# EAGLE library part WIZ120SR (library WIZnet)
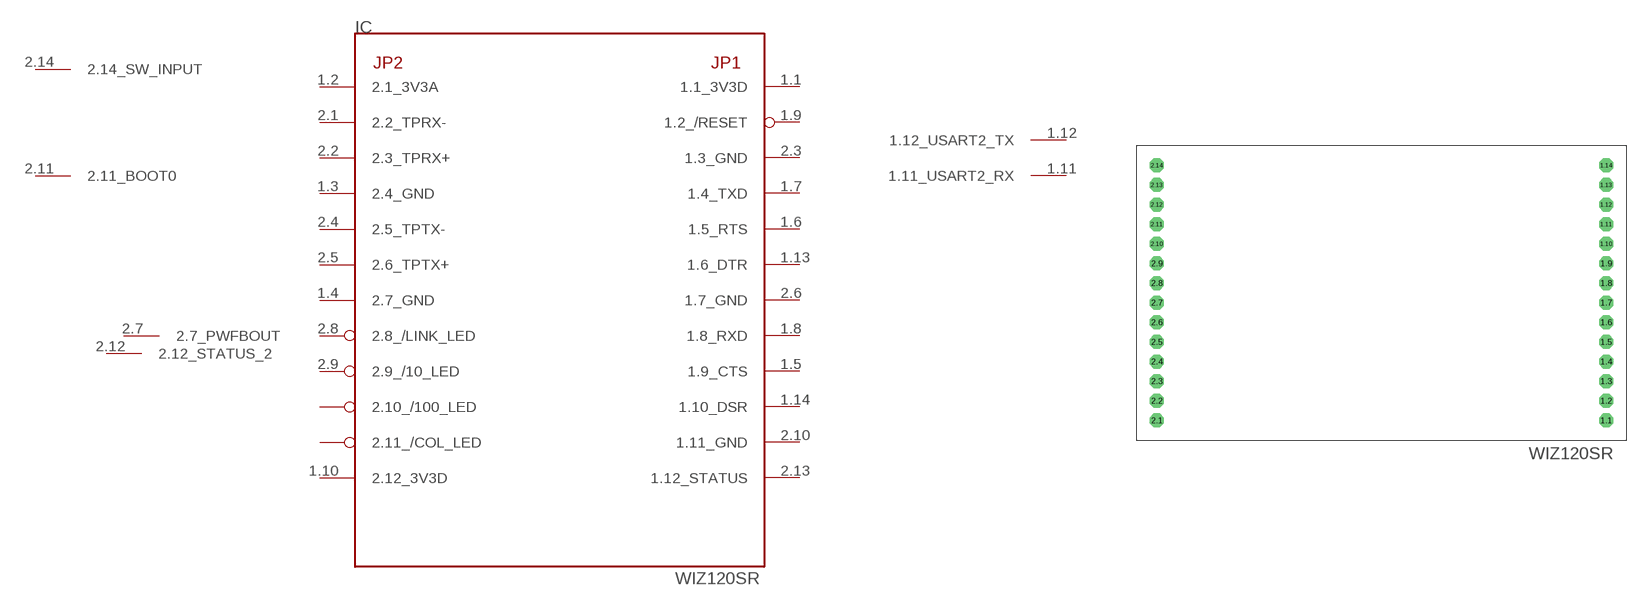
[diagram p10: symbol with the pads of WIZ120SR; footprint WIZ120SR]

Designator prefix IC

## WIZ120SRMODULE  [WIZ120SR]
1.1  1.1_3V3D  pwr
1.2  2.1_3V3A  pwr
1.3  2.4_GND  pwr
1.4  2.7_GND  pwr
1.5  1.9_CTS
1.6  1.5_RTS
1.7  1.4_TXD
1.8  1.8_RXD
1.9  1.2_/RESET
1.10  2.12_3V3D  pwr
1.11  1.11_USART2_RX
1.12  1.12_USART2_TX
1.13  1.6_DTR
1.14  1.10_DSR
2.1  2.2_TPRX-
2.2  2.3_TPRX+
2.3  1.3_GND  pwr
2.4  2.5_TPTX-
2.5  2.6_TPTX+
2.6  1.7_GND  pwr
2.7  2.7_PWFBOUT
2.8  2.8_/LINK_LED
2.9  2.9_/10_LED
2.10  1.11_GND  pwr
2.11  2.11_BOOT0
2.12  2.12_STATUS_2
2.13  1.12_STATUS
2.14  2.14_SW_INPUT

## Footprint WIZ120SR (pad centres in mm)
drill 0.8 pad 1.422 octagon: 1.1 47.9,2; 1.2 47.9,4; 1.3 47.9,6; 1.4 47.9,8; 1.5 47.9,10; 1.6 47.9,12; 1.7 47.9,14; 1.8 47.9,16; 1.9 47.9,18; 1.10 47.9,20; 1.11 47.9,22; 1.12 47.9,24; 1.13 47.9,26; 1.14 47.9,28; 2.1 2.1,2; 2.2 2.1,4; 2.3 2.1,6; 2.4 2.1,8; 2.5 2.1,10; 2.6 2.1,12; 2.7 2.1,14; 2.8 2.1,16; 2.9 2.1,18; 2.10 2.1,20; 2.11 2.1,22; 2.12 2.1,24; 2.13 2.1,26; 2.14 2.1,28